# Altium schematic symbol library kd_lib.SchLib: 6 symbols
Pins are listed as number, name and electrical type; pins without a type are passive.

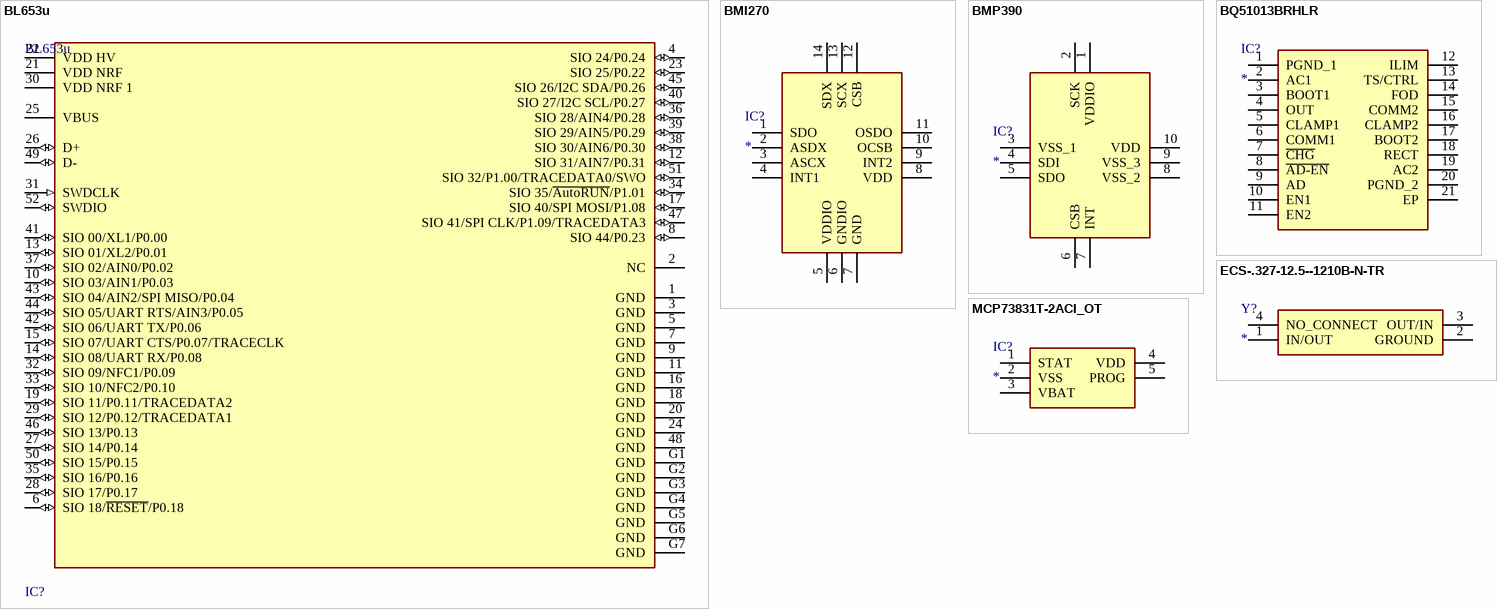
[diagram p0: symbols BL653u to MCP73831T-2ACI_OT]

## BL653u
designator IC?
BL653 MOD INTEGRATED ANT
footprint FP-453-00059R-MFG
pins: 1 GND (power), 2 NC, 3 GND (power), 4 SIO 24/P0.24 (io), 5 GND (power), 6 SIO 18/~{RESET}/P0.18 (io), 7 GND (power), 8 SIO 44/P0.23 (io), 9 GND (power), 10 SIO 03/AIN1/P0.03 (io), 11 GND (power), 12 SIO 31/AIN7/P0.31 (io), 13 SIO 01/XL2/P0.01 (io), 14 SIO 08/UART RX/P0.08 (io), 15 SIO 07/UART CTS/P0.07/TRACECLK (io), 16 GND (power), 17 SIO 40/SPI MOSI/P1.08 (io), 18 GND (power), 19 SIO 11/P0.11/TRACEDATA2 (io), 20 GND (power), 21 VDD NRF (power), 22 VDD HV (power), 23 SIO 25/P0.22 (io), 24 GND (power), 25 VBUS (power), 26 D+ (io), 27 SIO 14/P0.14 (io), 28 SIO 17/P0.17 (io), 29 SIO 12/P0.12/TRACEDATA1 (io), 30 VDD NRF 1 (power), 31 SWDCLK (in), 32 SIO 09/NFC1/P0.09 (io), 33 SIO 10/NFC2/P0.10 (io), 34 SIO 35/~{AutoRUN}/P1.01 (io), 35 SIO 16/P0.16 (io), 36 SIO 28/AIN4/P0.28 (io), 37 SIO 02/AIN0/P0.02 (io), 38 SIO 30/AIN6/P0.30 (io), 39 SIO 29/AIN5/P0.29 (io), 40 SIO 27/I2C SCL/P0.27 (io), 41 SIO 00/XL1/P0.00 (io), 42 SIO 06/UART TX/P0.06 (io), 43 SIO 04/AIN2/SPI MISO/P0.04 (io), 44 SIO 05/UART RTS/AIN3/P0.05 (io), 45 SIO 26/I2C SDA/P0.26 (io), 46 SIO 13/P0.13 (io), 47 SIO 41/SPI CLK/P1.09/TRACEDATA3 (io), 48 GND (power), 49 D- (io), 50 SIO 15/P0.15 (io), 51 SIO 32/P1.00/TRACEDATA0/SWO (io), 52 SWDIO (io), G1 GND (power), G2 GND (power), G3 GND (power), G4 GND (power), G5 GND (power), G6 GND (power), G7 GND (power)

## BMI270
designator IC?
Integrated Circuit; Manufacturer_Name: BOSCH; Manufacturer_Part_Number: BMI270; Datasheet Link: https://www.mouser.de/datasheet/2/783/BST-BMI270-FL000-1530947.pdf; Height: 0.87mm; Mouser Part Number: 262-BMI270; Mouser Price/Stock: https://www.mouser.co.uk/ProductDetail/Bosch-Sensortec/BMI270?qs=u16ybLDytRYIj%252BjQEee88A%3D%3D; Arrow Part Number: BMI270; Arrow Price/Stock: https://www.arrow.com/en/products/bmi270/bosch?region=nac
footprint QFN50P300X250X87-14N
pins: 1 SDO, 2 ASDX, 3 ASCX, 4 INT1, 5 VDDIO, 6 GNDIO, 7 GND, 8 VDD, 9 INT2, 10 OCSB, 11 OSDO, 12 CSB, 13 SCX, 14 SDX

## BMP390
designator IC?
Integrated Circuit; Manufacturer_Name: BOSCH; Manufacturer_Part_Number: BMP390; Datasheet Link: https://www.bosch-sensortec.com/media/boschsensortec/downloads/datasheets/bst-bmp390-ds002.pdf; Height: 0.8mm; Mouser Part Number: 262-BMP390; Mouser Price/Stock: https://www.mouser.co.uk/ProductDetail/Bosch-Sensortec/BMP390?qs=QNEnbhJQKvYQVfvRMgo2YA%3D%3D; Arrow Part Number: BMP390; Arrow Price/Stock: https://www.arrow.com/en/products/bmp390/bosch?region=nac
footprint BMP390
pins: 1 VDDIO, 2 SCK, 3 VSS_1, 4 SDI, 5 SDO, 6 CSB, 7 INT, 8 VSS_2, 9 VSS_3, 10 VDD

## BQ51013BRHLR
designator IC?
Integrated Circuit; Manufacturer_Name: Texas Instruments; Manufacturer_Part_Number: BQ51013BRHLR; Description: WPC 1.1 Compatible Fully Integrated Wireless Power Receiver IC; Datasheet Link: http://www.ti.com/lit/ds/symlink/bq51013b.pdf; Mouser Part Number: 595-BQ51013BRHLR; Mouser Price/Stock: https://www.mouser.co.uk/ProductDetail/Texas-Instruments/BQ51013BRHLR?qs=y1vSg4rOnUJlN8ZPg6D5Pw%3D%3D; Arrow Part Number: BQ51013BRHLR; Arrow Price/Stock: https://www.arrow.com/en/products/bq51013brhlr/texas-instruments?region=nac
footprint BQ51050BRHLR
pins: 1 PGND_1, 2 AC1, 3 BOOT1, 4 OUT, 5 CLAMP1, 6 COMM1, 7 ~{CHG}, 8 ~{AD-EN}, 9 AD, 10 EN1, 11 EN2, 12 ILIM, 13 TS/CTRL, 14 FOD, 15 COMM2, 16 CLAMP2, 17 BOOT2, 18 RECT, 19 AC2, 20 PGND_2, 21 EP

## ECS-.327-12.5--1210B-N-TR
designator Y?
Crystal or Oscillator; Manufacturer_Name: ECS; Manufacturer_Part_Number: ECS-.327-12.5--1210B-N-TR; Datasheet Link: https://4donline.ihs.com/images/VipMasterIC/IC/ECSI/ECSI-S-A0011101861/ECSI-S-A0011101861-1.pdf?hkey=EF798316E3902B6ED9A73243A3159BB0; Height: 0.35mm
footprint ECS3271251210BNTR
pins: 1 IN/OUT, 2 GROUND, 3 OUT/IN, 4 NO_CONNECT

## MCP73831T-2ACI_OT
designator IC?
Integrated Circuit; Manufacturer_Name: Microchip; Manufacturer_Part_Number: MCP73831T-2ACI/OT; Description: Li-Ion Charge Controller 4.2V SOT23-5; Datasheet Link: http://ww1.microchip.com/downloads/en/DeviceDoc/20001984g.pdf; Height: 1.45mm; Mouser Part Number: 579-MCP73831T-2ACIOT; Mouser Price/Stock: https://www.mouser.co.uk/ProductDetail/Microchip-Technology/MCP73831T-2ACI-OT?qs=yUQqVecv4qvbBQBGbHx0Mw%3D%3D; Arrow Part Number: MCP73831T-2ACI/OT; Arrow Price/Stock: https://www.arrow.com/en/products/mcp73831t-2aciot/microchip-technology?region=nac
footprint SOT95P270X145-5N
pins: 1 STAT, 2 VSS, 3 VBAT, 4 VDD, 5 PROG